# EAGLE library part USB_6364372-2 (library fmc)
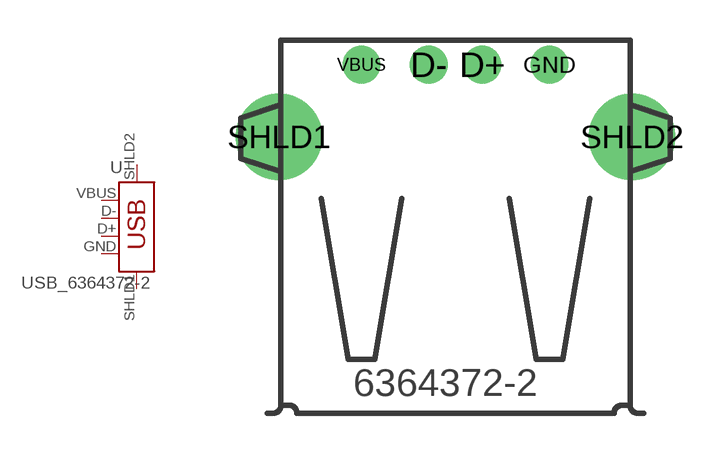
[diagram p6: symbol with the pads of USB-B; footprint USB-B]

Designator prefix -

## USB_6364372-2  [USB-B]
D+  D+  pas
D-  D-  pas
GND  GND  pas
SHLD1  SHLD1
SHLD2  SHLD2
VBUS  VBUS  pas

## Footprint USB-B (pad centres in mm)
drill 0.9: D+ 1,-0.027; D- -1,-0.027; GND 3.5,-0.027; VBUS -3.5,-0.027
drill 2.2: SHLD1 -6.57,-2.71; SHLD2 6.57,-2.71